# Altium footprint library RS07.PcbLib: 1 footprints
Each footprint in its own frame and in the unit in brackets; x right, y up, seen from the top. Pads: shape width x height; smd on the part's side, far side on the other; paste and mask are expansions set on the pad; w line width, h text height; cw(c..) or ccw(c..) is an arc to the next point about the centre after c.
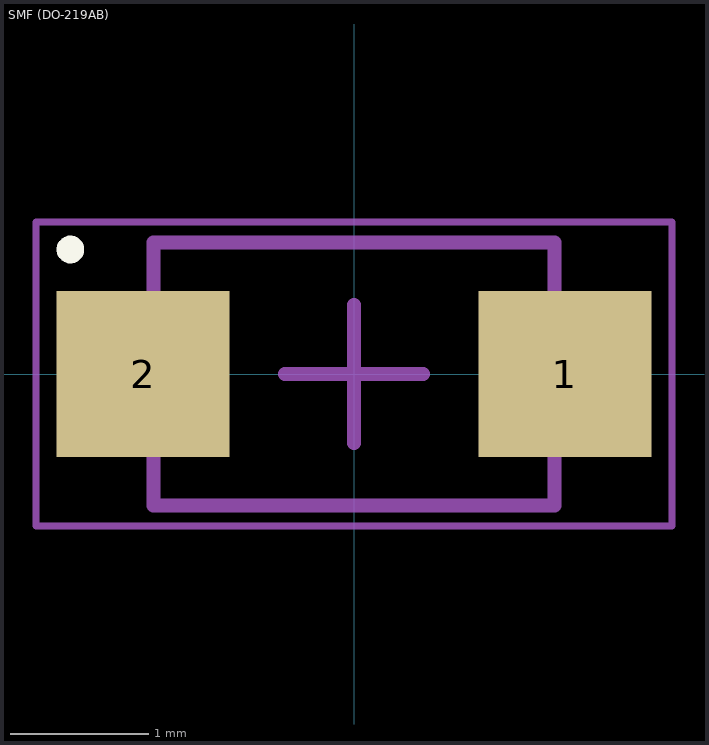
[diagram p0: the footprint, top view; thin cyan lines are the x and y axes]

## SMF (DO-219AB) [mm] "Vishay Semiconductors, Diode, SMF (DO-219AB) Package"
height 1.08
pads (2):
  rect 1.25x1.2 smd: 1(1.525,0) 2(-1.525,0)
Top Overlay:
  circle w0.1: c-2.05,0.9 r0.05
Mechanical 13:
  lines w0.1: -1.45,-0.95 -1.45,0.95 1.45,0.95 1.45,-0.95 -1.45,-0.95
Mechanical 15:
  lines w0.05: -2.3,-1.1 -2.3,1.1 2.3,1.1 2.3,-1.1 -2.3,-1.1
  lines w0.1: -0.5,0 0.5,0 ; 0,-0.5 0,0.5
3D body "SMF (DO-219AB).step": height 1.08, standoff 0, extent -1.85,-0.95 1.85,0.95